# Altium footprint library wson_10_400x400x80.PcbLib: 1 footprints
Each footprint in its own frame and in the unit in brackets; x right, y up, seen from the top. Pads: shape width x height; smd on the part's side, far side on the other; paste and mask are expansions set on the pad; w line width, h text height; cw(c..) or ccw(c..) is an arc to the next point about the centre after c.
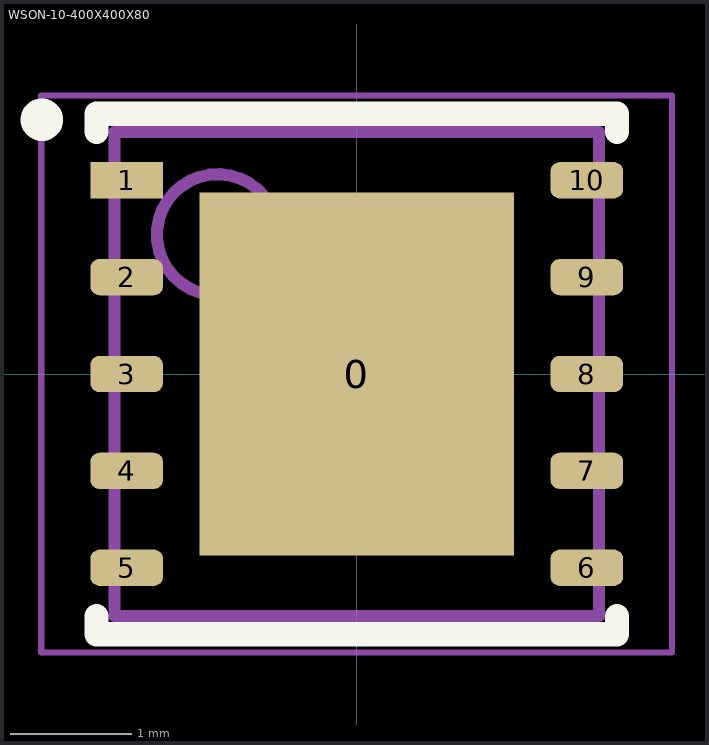
[diagram p0: the footprint, top view; thin cyan lines are the x and y axes]

## WSON-10-400X400X80 [mm] "SON, 10-Leads, Body 4,00x4,00mm, Pitch 0,80mm, Thermal Pad 3,00x2,6mm, IPC Medium Density"
height 0.8
pads (11):
  rect 2.6x3 smd paste-1.245: 0(0,0)
  rect 0.6x0.3 smd: 1(-1.9,1.6)
  rrect50% 0.6x0.3 smd: 2(-1.9,0.8) 3(-1.9,0) 4(-1.9,-0.8) 5(-1.9,-1.6) 6(1.9,-1.6) 7(1.9,-0.8) 8(1.9,0) 9(1.9,0.8) 10(1.9,1.6)
Top Overlay:
  circle w0.25: c-2.6,2.1 r0.05
  lines w0.2: -2.15,-2 -2.15,-2.15 0,-2.15 2.15,-2.15 2.15,-2 ; -2.15,2 -2.15,2.15 0,2.15 2.15,2.15 2.15,2
Top Paste:
  rectangle: -1.15,0.1 -0.1,1.4
  rectangle: -1.15,-1.4 -0.1,-0.1
  rectangle: 0.1,0.1 1.15,1.4
  rectangle: 0.1,-1.4 1.15,-0.1
Top Comment:
  text ".Comment" at 1.1,2.4 h1.2
Top Designator:
  text ".Designator" at -0.4,2.4 h1.2
Top Component Outline:
  circle w0.1: c-1.15,1.15 r0.5
  lines w0.1: -2,-2 -2,2 2,2 2,-2 -2,-2
Top Courtyard (Mech15):
  lines w0.05: -2.605,-2.3 -2.605,2.3 2.605,2.3 2.605,-2.3 -2.605,-2.3
  lines w0.1: -0.5,0 0.5,0 ; 0,-0.5 0,0.5
3D body "WSON-10-4X4.STEP": height 0.8, standoff 0, extent -2,-2 2,2